# Altium footprint library T1.PcbLib: 1 footprints
Each footprint in its own frame and in the unit in brackets; x right, y up, seen from the top. Pads: shape width x height; smd on the part's side, far side on the other; paste and mask are expansions set on the pad; w line width, h text height; cw(c..) or ccw(c..) is an arc to the next point about the centre after c.
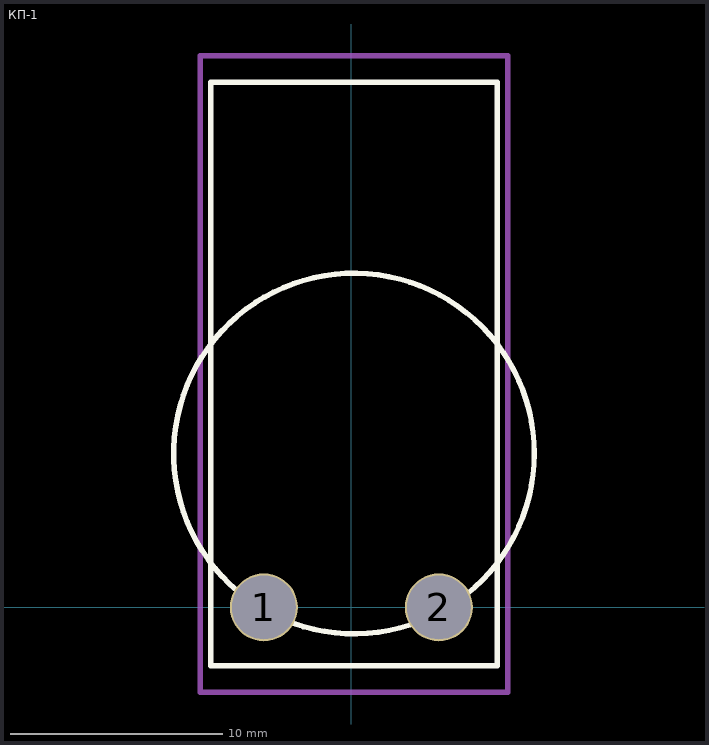
[diagram p0: the footprint, top view; thin cyan lines are the x and y axes]

## КП-1 [mm]
pads (2):
  round 3.2 hole 3: 1(-4.125,0) 2(4.125,0)
Top Overlay:
  circle w0.254: c0.125,7.25 r8.5
  lines w0.254: -6.625,-2.75 6.875,-2.75 6.875,24.75 -6.625,24.75 -6.625,-2.75
Mechanical 1:
  lines w0.254: -7.125,-4 -7.125,26 7.375,26 7.375,-4 -7.125,-4